# Altium schematic symbol library Sensor_Current.SchLib: 253 symbols (part 2 of 3)
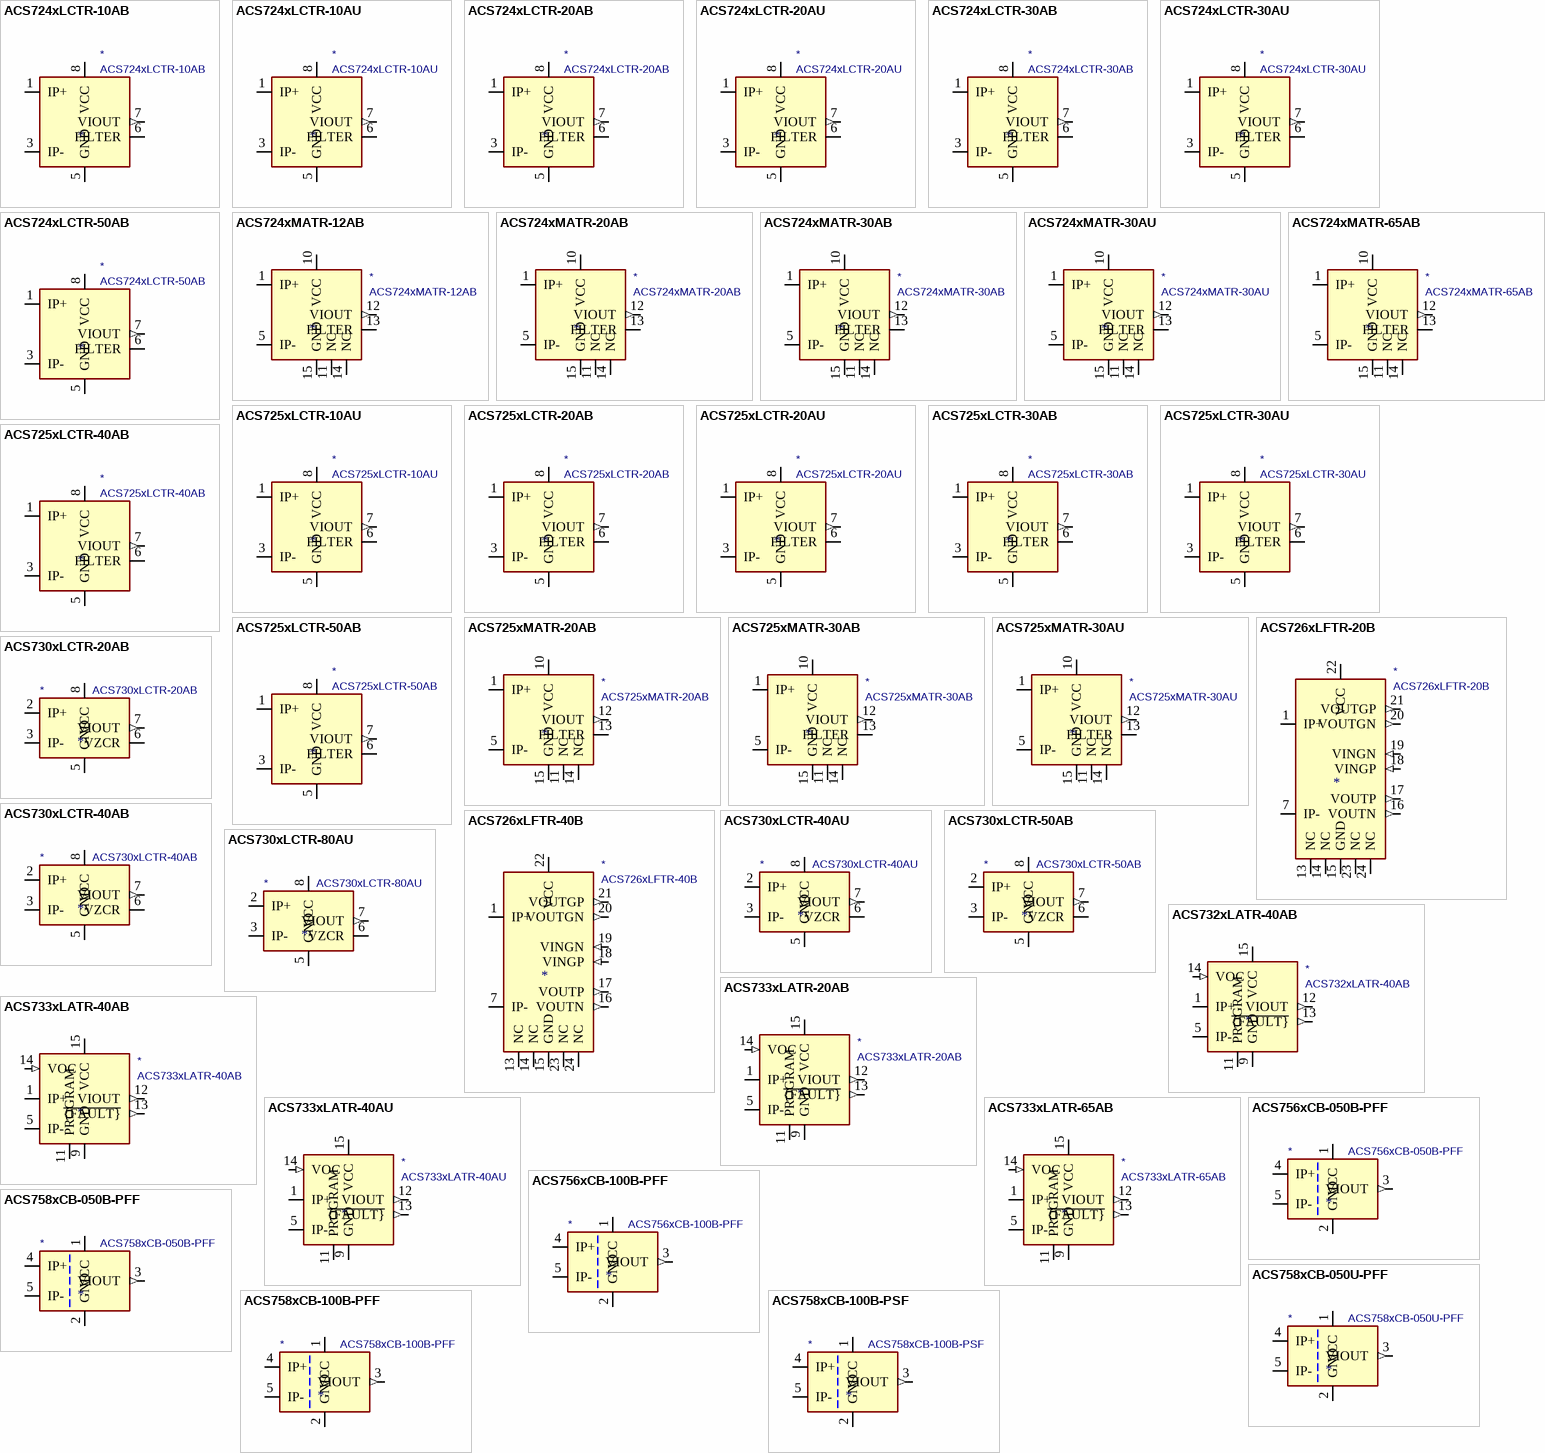
[diagram p7: symbols ACS724xLCTR-10AB to ACS758xCB-100B-PSF]

## ACS724xMATR-12AB
designator *  value ACS724xMATR-12AB
ki_keywords: hall effect current monitor sensor isolated; ki_description: ±12A Bidirectional Hall-Effect Current Sensor, +5.0V supply, 166mV/A, SOIC-16; ki_fp_filters: SOIC*7.5x10.3mm*P1.27mm*; Footprint: Package_SO:SOIC-16W_7.5x10.3mm_P1.27mm; Supplier: http://www.allegromicro.com/~/media/Files/Datasheets/ACS724KMA-Datasheet.ashx?la=en
footprint SOIC-16W_7.5x10.3mm_P1.27mm
pins: 1 IP+, 2 IP+ hidden, 3 IP+ hidden, 4 IP+ hidden, 5 IP-, 6 IP- hidden, 7 IP- hidden, 8 IP- hidden, 9 NC (in) hidden, 10 VCC (power), 11 NC, 12 VIOUT (out), 13 FILTER, 14 NC, 15 GND (power), 16 NC (in) hidden

## ACS724xMATR-20AB
designator *  value ACS724xMATR-20AB
ki_keywords: hall effect current monitor sensor isolated; ki_description: ±20A Bidirectional Hall-Effect Current Sensor, +5.0V supply, 100mV/A, SOIC-16; ki_fp_filters: SOIC*7.5x10.3mm*P1.27mm*; Footprint: Package_SO:SOIC-16W_7.5x10.3mm_P1.27mm; Supplier: http://www.allegromicro.com/~/media/Files/Datasheets/ACS724KMA-Datasheet.ashx?la=en
footprint SOIC-16W_7.5x10.3mm_P1.27mm
pins: 1 IP+, 2 IP+ hidden, 3 IP+ hidden, 4 IP+ hidden, 5 IP-, 6 IP- hidden, 7 IP- hidden, 8 IP- hidden, 9 NC (in) hidden, 10 VCC (power), 11 NC, 12 VIOUT (out), 13 FILTER, 14 NC, 15 GND (power), 16 NC (in) hidden

## ACS724xMATR-30AB
designator *  value ACS724xMATR-30AB
ki_keywords: hall effect current monitor sensor isolated; ki_description: ±30A Bidirectional Hall-Effect Current Sensor, +5.0V supply, 66mV/A, SOIC-16; ki_fp_filters: SOIC*7.5x10.3mm*P1.27mm*; Footprint: Package_SO:SOIC-16W_7.5x10.3mm_P1.27mm; Supplier: http://www.allegromicro.com/~/media/Files/Datasheets/ACS724KMA-Datasheet.ashx?la=en
footprint SOIC-16W_7.5x10.3mm_P1.27mm
pins: 1 IP+, 2 IP+ hidden, 3 IP+ hidden, 4 IP+ hidden, 5 IP-, 6 IP- hidden, 7 IP- hidden, 8 IP- hidden, 9 NC (in) hidden, 10 VCC (power), 11 NC, 12 VIOUT (out), 13 FILTER, 14 NC, 15 GND (power), 16 NC (in) hidden

## ACS724xMATR-30AU
designator *  value ACS724xMATR-30AU
ki_keywords: hall effect current monitor sensor isolated; ki_description: 30A Unidirectional Hall-Effect Current Sensor, +5.0V supply, 132mV/A, SOIC-16; ki_fp_filters: SOIC*7.5x10.3mm*P1.27mm*; Footprint: Package_SO:SOIC-16W_7.5x10.3mm_P1.27mm; Supplier: http://www.allegromicro.com/~/media/Files/Datasheets/ACS724KMA-Datasheet.ashx?la=en
footprint SOIC-16W_7.5x10.3mm_P1.27mm
pins: 1 IP+, 2 IP+ hidden, 3 IP+ hidden, 4 IP+ hidden, 5 IP-, 6 IP- hidden, 7 IP- hidden, 8 IP- hidden, 9 NC (in) hidden, 10 VCC (power), 11 NC, 12 VIOUT (out), 13 FILTER, 14 NC, 15 GND (power), 16 NC (in) hidden

## ACS724xMATR-65AB
designator *  value ACS724xMATR-65AB
ki_keywords: hall effect current monitor sensor isolated; ki_description: ±65A Bidirectional Hall-Effect Current Sensor, +5.0V supply, 30.75mV/A, SOIC-16; ki_fp_filters: SOIC*7.5x10.3mm*P1.27mm*; Footprint: Package_SO:SOIC-16W_7.5x10.3mm_P1.27mm; Supplier: http://www.allegromicro.com/~/media/Files/Datasheets/ACS724KMA-Datasheet.ashx?la=en
footprint SOIC-16W_7.5x10.3mm_P1.27mm
pins: 1 IP+, 2 IP+ hidden, 3 IP+ hidden, 4 IP+ hidden, 5 IP-, 6 IP- hidden, 7 IP- hidden, 8 IP- hidden, 9 NC (in) hidden, 10 VCC (power), 11 NC, 12 VIOUT (out), 13 FILTER, 14 NC, 15 GND (power), 16 NC (in) hidden

## ACS725xLCTR-10AU
designator *  value ACS725xLCTR-10AU
ki_keywords: hall effect current monitor sensor isolated; ki_description: 10A Unidirectional Hall-Effect Current Sensor, +3.3V supply, 264mV/A, SOIC-8; ki_fp_filters: SOIC*3.9x4.9m*P1.27mm*; Footprint: Package_SO:SOIC-8_3.9x4.9mm_P1.27mm; Supplier: http://www.allegromicro.com/~/media/Files/Datasheets/ACS725-Datasheet.ashx?la=en
footprint SOIC-8_3.9x4.9mm_P1.27mm
pins: 1 IP+, 2 IP+ hidden, 3 IP-, 4 IP- hidden, 5 GND (power), 6 FILTER, 7 VIOUT (out), 8 VCC (power)

## ACS725xLCTR-20AB
designator *  value ACS725xLCTR-20AB
ki_keywords: hall effect current monitor sensor isolated; ki_description: ±20A Bidirectional Hall-Effect Current Sensor, +3.3V supply, 66mV/A, SOIC-8; ki_fp_filters: SOIC*3.9x4.9m*P1.27mm*; Footprint: Package_SO:SOIC-8_3.9x4.9mm_P1.27mm; Supplier: http://www.allegromicro.com/~/media/Files/Datasheets/ACS725-Datasheet.ashx?la=en
footprint SOIC-8_3.9x4.9mm_P1.27mm
pins: 1 IP+, 2 IP+ hidden, 3 IP-, 4 IP- hidden, 5 GND (power), 6 FILTER, 7 VIOUT (out), 8 VCC (power)

## ACS725xLCTR-20AU
designator *  value ACS725xLCTR-20AU
ki_keywords: hall effect current monitor sensor isolated; ki_description: 20A Unidirectional Hall-Effect Current Sensor, +3.3V supply, 132mV/A, SOIC-8; ki_fp_filters: SOIC*3.9x4.9m*P1.27mm*; Footprint: Package_SO:SOIC-8_3.9x4.9mm_P1.27mm; Supplier: http://www.allegromicro.com/~/media/Files/Datasheets/ACS725-Datasheet.ashx?la=en
footprint SOIC-8_3.9x4.9mm_P1.27mm
pins: 1 IP+, 2 IP+ hidden, 3 IP-, 4 IP- hidden, 5 GND (power), 6 FILTER, 7 VIOUT (out), 8 VCC (power)

## ACS725xLCTR-30AB
designator *  value ACS725xLCTR-30AB
ki_keywords: hall effect current monitor sensor isolated; ki_description: ±30A Bidirectional Hall-Effect Current Sensor, +3.3V supply, 44mV/A, SOIC-8; ki_fp_filters: SOIC*3.9x4.9m*P1.27mm*; Footprint: Package_SO:SOIC-8_3.9x4.9mm_P1.27mm; Supplier: http://www.allegromicro.com/~/media/Files/Datasheets/ACS725-Datasheet.ashx?la=en
footprint SOIC-8_3.9x4.9mm_P1.27mm
pins: 1 IP+, 2 IP+ hidden, 3 IP-, 4 IP- hidden, 5 GND (power), 6 FILTER, 7 VIOUT (out), 8 VCC (power)

## ACS725xLCTR-30AU
designator *  value ACS725xLCTR-30AU
ki_keywords: hall effect current monitor sensor isolated; ki_description: 30A Unidirectional Hall-Effect Current Sensor, +3.3V supply, 88mV/A, SOIC-8; ki_fp_filters: SOIC*3.9x4.9m*P1.27mm*; Footprint: Package_SO:SOIC-8_3.9x4.9mm_P1.27mm; Supplier: http://www.allegromicro.com/~/media/Files/Datasheets/ACS725-Datasheet.ashx?la=en
footprint SOIC-8_3.9x4.9mm_P1.27mm
pins: 1 IP+, 2 IP+ hidden, 3 IP-, 4 IP- hidden, 5 GND (power), 6 FILTER, 7 VIOUT (out), 8 VCC (power)

## ACS725xLCTR-40AB
designator *  value ACS725xLCTR-40AB
ki_keywords: hall effect current monitor sensor isolated; ki_description: ±40A Bidirectional Hall-Effect Current Sensor, +3.3V supply, 33mV/A, SOIC-8; ki_fp_filters: SOIC*3.9x4.9m*P1.27mm*; Footprint: Package_SO:SOIC-8_3.9x4.9mm_P1.27mm; Supplier: http://www.allegromicro.com/~/media/Files/Datasheets/ACS725-Datasheet.ashx?la=en
footprint SOIC-8_3.9x4.9mm_P1.27mm
pins: 1 IP+, 2 IP+ hidden, 3 IP-, 4 IP- hidden, 5 GND (power), 6 FILTER, 7 VIOUT (out), 8 VCC (power)

## ACS725xLCTR-50AB
designator *  value ACS725xLCTR-50AB
ki_keywords: hall effect current monitor sensor isolated; ki_description: ±50A Bidirectional Hall-Effect Current Sensor, +3.3V supply, 26.4mV/A, SOIC-8; ki_fp_filters: SOIC*3.9x4.9m*P1.27mm*; Footprint: Package_SO:SOIC-8_3.9x4.9mm_P1.27mm; Supplier: http://www.allegromicro.com/~/media/Files/Datasheets/ACS725-Datasheet.ashx?la=en
footprint SOIC-8_3.9x4.9mm_P1.27mm
pins: 1 IP+, 2 IP+ hidden, 3 IP-, 4 IP- hidden, 5 GND (power), 6 FILTER, 7 VIOUT (out), 8 VCC (power)

## ACS725xMATR-20AB
designator *  value ACS725xMATR-20AB
ki_keywords: hall effect current monitor sensor isolated; ki_description: ±20A Bidirectional Hall-Effect Current Sensor, +3.3V supply, 66mV/A, SOIC-16; ki_fp_filters: SOIC*7.5x10.3mm*P1.27mm*; Footprint: Package_SO:SOIC-16W_7.5x10.3mm_P1.27mm; Supplier: http://www.allegromicro.com/~/media/Files/Datasheets/ACS725KMA-Datasheet.ashx?la=en
footprint SOIC-16W_7.5x10.3mm_P1.27mm
pins: 1 IP+, 2 IP+ hidden, 3 IP+ hidden, 4 IP+ hidden, 5 IP-, 6 IP- hidden, 7 IP- hidden, 8 IP- hidden, 9 NC (in) hidden, 10 VCC (power), 11 NC, 12 VIOUT (out), 13 FILTER, 14 NC, 15 GND (power), 16 NC (in) hidden

## ACS725xMATR-30AB
designator *  value ACS725xMATR-30AB
ki_keywords: hall effect current monitor sensor isolated; ki_description: ±30A Bidirectional Hall-Effect Current Sensor, +3.3V supply, 44mV/A, SOIC-16; ki_fp_filters: SOIC*7.5x10.3mm*P1.27mm*; Footprint: Package_SO:SOIC-16W_7.5x10.3mm_P1.27mm; Supplier: http://www.allegromicro.com/~/media/Files/Datasheets/ACS725KMA-Datasheet.ashx?la=en
footprint SOIC-16W_7.5x10.3mm_P1.27mm
pins: 1 IP+, 2 IP+ hidden, 3 IP+ hidden, 4 IP+ hidden, 5 IP-, 6 IP- hidden, 7 IP- hidden, 8 IP- hidden, 9 NC (in) hidden, 10 VCC (power), 11 NC, 12 VIOUT (out), 13 FILTER, 14 NC, 15 GND (power), 16 NC (in) hidden

## ACS725xMATR-30AU
designator *  value ACS725xMATR-30AU
ki_keywords: hall effect current monitor sensor isolated; ki_description: 30A Unidirectional Hall-Effect Current Sensor, +3.3V supply, 88mV/A, SOIC-16; ki_fp_filters: SOIC*7.5x10.3mm*P1.27mm*; Footprint: Package_SO:SOIC-16W_7.5x10.3mm_P1.27mm; Supplier: http://www.allegromicro.com/~/media/Files/Datasheets/ACS725KMA-Datasheet.ashx?la=en
footprint SOIC-16W_7.5x10.3mm_P1.27mm
pins: 1 IP+, 2 IP+ hidden, 3 IP+ hidden, 4 IP+ hidden, 5 IP-, 6 IP- hidden, 7 IP- hidden, 8 IP- hidden, 9 NC (in) hidden, 10 VCC (power), 11 NC, 12 VIOUT (out), 13 FILTER, 14 NC, 15 GND (power), 16 NC (in) hidden

## ACS726xLFTR-20B
designator *  value ACS726xLFTR-20B
ki_keywords: hall effect current monitor sensor isolated; ki_description: ±20A Bidirectional Hall-Effect Current Sensor, +3.3V supply, 100mV/A, QSOP-24; ki_fp_filters: Allegro*QSOP*3.9x8.7mm*P0.635mm*; Footprint: Sensor_Current:Allegro_QSOP-24_3.9x8.7mm_P0.635mm; Supplier: http://www.allegromicro.com/~/media/Files/Datasheets/ACS726-Datasheet.ashx?la=en
footprint Allegro_QSOP-24_3.9x8.7mm_P0.635mm
pins: 1 IP+, 2 IP+ hidden, 3 IP+ hidden, 4 IP+ hidden, 5 IP+ hidden, 6 IP+ hidden, 7 IP-, 8 IP- hidden, 9 IP- hidden, 10 IP- hidden, 11 IP- hidden, 12 IP- hidden, 13 NC, 14 NC, 15 GND (power), 16 VOUTN (out), 17 VOUTP (out), 18 VINGP (in), 19 VINGN (in), 20 VOUTGN (out), 21 VOUTGP (out), 22 VCC (power), 23 NC, 24 NC

## ACS726xLFTR-40B
designator *  value ACS726xLFTR-40B
ki_keywords: hall effect current monitor sensor isolated; ki_description: ±40A Bidirectional Hall-Effect Current Sensor, +3.3V supply, 50mV/A, QSOP-24; ki_fp_filters: Allegro*QSOP*3.9x8.7mm*P0.635mm*; Footprint: Sensor_Current:Allegro_QSOP-24_3.9x8.7mm_P0.635mm; Supplier: http://www.allegromicro.com/~/media/Files/Datasheets/ACS726-Datasheet.ashx?la=en
footprint Allegro_QSOP-24_3.9x8.7mm_P0.635mm
pins: 1 IP+, 2 IP+ hidden, 3 IP+ hidden, 4 IP+ hidden, 5 IP+ hidden, 6 IP+ hidden, 7 IP-, 8 IP- hidden, 9 IP- hidden, 10 IP- hidden, 11 IP- hidden, 12 IP- hidden, 13 NC, 14 NC, 15 GND (power), 16 VOUTN (out), 17 VOUTP (out), 18 VINGP (in), 19 VINGN (in), 20 VOUTGN (out), 21 VOUTGP (out), 22 VCC (power), 23 NC, 24 NC

## ACS730xLCTR-20AB
designator *  value ACS730xLCTR-20AB
ki_keywords: hall effect current monitor sensor isolated; ki_description: ±20A Bidirectional Hall-Effect Current Sensor, +5.0V supply, 100mV/A, SOIC-8; ki_fp_filters: SOIC*3.9x4.9mm*P1.27mm*; Footprint: Package_SO:SOIC-8_3.9x4.9mm_P1.27mm; Supplier: http://www.allegromicro.com/~/media/Files/Datasheets/ACS730-Datasheet.ashx?la=en
footprint SOIC-8_3.9x4.9mm_P1.27mm
pins: 1 IP+ hidden, 2 IP+, 3 IP-, 4 IP- hidden, 5 GND (power), 6 VZCR, 7 VIOUT (out), 8 VCC (power)

## ACS730xLCTR-40AB
designator *  value ACS730xLCTR-40AB
ki_keywords: hall effect current monitor sensor isolated; ki_description: ±40A Bidirectional Hall-Effect Current Sensor, +5.0V supply, 50mV/A, SOIC-8; ki_fp_filters: SOIC*3.9x4.9mm*P1.27mm*; Footprint: Package_SO:SOIC-8_3.9x4.9mm_P1.27mm; Supplier: http://www.allegromicro.com/~/media/Files/Datasheets/ACS730-Datasheet.ashx?la=en
footprint SOIC-8_3.9x4.9mm_P1.27mm
pins: 1 IP+ hidden, 2 IP+, 3 IP-, 4 IP- hidden, 5 GND (power), 6 VZCR, 7 VIOUT (out), 8 VCC (power)

## ACS730xLCTR-40AU
designator *  value ACS730xLCTR-40AU
ki_keywords: hall effect current monitor sensor isolated; ki_description: 40A Unidirectional Hall-Effect Current Sensor, +5.0V supply, 100mV/A, SOIC-8; ki_fp_filters: SOIC*3.9x4.9mm*P1.27mm*; Footprint: Package_SO:SOIC-8_3.9x4.9mm_P1.27mm; Supplier: http://www.allegromicro.com/~/media/Files/Datasheets/ACS730-Datasheet.ashx?la=en
footprint SOIC-8_3.9x4.9mm_P1.27mm
pins: 1 IP+ hidden, 2 IP+, 3 IP-, 4 IP- hidden, 5 GND (power), 6 VZCR, 7 VIOUT (out), 8 VCC (power)

## ACS730xLCTR-50AB
designator *  value ACS730xLCTR-50AB
ki_keywords: hall effect current monitor sensor isolated; ki_description: ±50A Bidirectional Hall-Effect Current Sensor, +5.0V supply, 40mV/A, SOIC-8; ki_fp_filters: SOIC*3.9x4.9mm*P1.27mm*; Footprint: Package_SO:SOIC-8_3.9x4.9mm_P1.27mm; Supplier: http://www.allegromicro.com/~/media/Files/Datasheets/ACS730-Datasheet.ashx?la=en
footprint SOIC-8_3.9x4.9mm_P1.27mm
pins: 1 IP+ hidden, 2 IP+, 3 IP-, 4 IP- hidden, 5 GND (power), 6 VZCR, 7 VIOUT (out), 8 VCC (power)

## ACS730xLCTR-80AU
designator *  value ACS730xLCTR-80AU
ki_keywords: hall effect current monitor sensor isolated; ki_description: 80A Unidirectional Hall-Effect Current Sensor, +5.0V supply, 50mV/A, SOIC-8; ki_fp_filters: SOIC*3.9x4.9mm*P1.27mm*; Footprint: Package_SO:SOIC-8_3.9x4.9mm_P1.27mm; Supplier: http://www.allegromicro.com/~/media/Files/Datasheets/ACS730-Datasheet.ashx?la=en
footprint SOIC-8_3.9x4.9mm_P1.27mm
pins: 1 IP+ hidden, 2 IP+, 3 IP-, 4 IP- hidden, 5 GND (power), 6 VZCR, 7 VIOUT (out), 8 VCC (power)

## ACS732xLATR-40AB
designator *  value ACS732xLATR-40AB
ki_keywords: hall effect current monitor sensor isolated; ki_description: ±40A Bidirectional Hall-Effect Current Sensor, +5.0V supply, 50mV/A, SOIC-16; ki_fp_filters: SOIC*7.5x10.3mm*P1.27mm*; Footprint: Package_SO:SOIC-16W_7.5x10.3mm_P1.27mm; Supplier: http://www.allegromicro.com/~/media/Files/Datasheets/ACS732-ACS733-Datasheet.ashx?la=en
footprint SOIC-16W_7.5x10.3mm_P1.27mm
pins: 1 IP+, 2 IP+ hidden, 3 IP+ hidden, 4 IP+ hidden, 5 IP-, 6 IP- hidden, 7 IP- hidden, 8 IP- hidden, 9 GND (power), 10 GND hidden, 11 PROGRAM, 12 VIOUT (out), 13 ~{{FAULT}} (out), 14 VOC (in), 15 VCC (power), 16 VCC hidden

## ACS733xLATR-20AB
designator *  value ACS733xLATR-20AB
ki_keywords: hall effect current monitor sensor isolated; ki_description: ±20A Bidirectional Hall-Effect Current Sensor, +3.3V supply, 66mV/A, SOIC-16; ki_fp_filters: SOIC*7.5x10.3mm*P1.27mm*; Footprint: Package_SO:SOIC-16W_7.5x10.3mm_P1.27mm; Supplier: http://www.allegromicro.com/~/media/Files/Datasheets/ACS732-ACS733-Datasheet.ashx?la=en
footprint SOIC-16W_7.5x10.3mm_P1.27mm
pins: 1 IP+, 2 IP+ hidden, 3 IP+ hidden, 4 IP+ hidden, 5 IP-, 6 IP- hidden, 7 IP- hidden, 8 IP- hidden, 9 GND (power), 10 GND hidden, 11 PROGRAM, 12 VIOUT (out), 13 ~{{FAULT}} (out), 14 VOC (in), 15 VCC (power), 16 VCC hidden

## ACS733xLATR-40AB
designator *  value ACS733xLATR-40AB
ki_keywords: hall effect current monitor sensor isolated; ki_description: ±40A Bidirectional Hall-Effect Current Sensor, +3.3V supply, 33mV/A, SOIC-16; ki_fp_filters: SOIC*7.5x10.3mm*P1.27mm*; Footprint: Package_SO:SOIC-16W_7.5x10.3mm_P1.27mm; Supplier: http://www.allegromicro.com/~/media/Files/Datasheets/ACS732-ACS733-Datasheet.ashx?la=en
footprint SOIC-16W_7.5x10.3mm_P1.27mm
pins: 1 IP+, 2 IP+ hidden, 3 IP+ hidden, 4 IP+ hidden, 5 IP-, 6 IP- hidden, 7 IP- hidden, 8 IP- hidden, 9 GND (power), 10 GND hidden, 11 PROGRAM, 12 VIOUT (out), 13 ~{{FAULT}} (out), 14 VOC (in), 15 VCC (power), 16 VCC hidden

## ACS733xLATR-40AU
designator *  value ACS733xLATR-40AU
ki_keywords: hall effect current monitor sensor isolated; ki_description: 40A Unidirectional Hall-Effect Current Sensor, +3.3V supply, 66mV/A, SOIC-16; ki_fp_filters: SOIC*7.5x10.3mm*P1.27mm*; Footprint: Package_SO:SOIC-16W_7.5x10.3mm_P1.27mm; Supplier: http://www.allegromicro.com/~/media/Files/Datasheets/ACS732-ACS733-Datasheet.ashx?la=en
footprint SOIC-16W_7.5x10.3mm_P1.27mm
pins: 1 IP+, 2 IP+ hidden, 3 IP+ hidden, 4 IP+ hidden, 5 IP-, 6 IP- hidden, 7 IP- hidden, 8 IP- hidden, 9 GND (power), 10 GND hidden, 11 PROGRAM, 12 VIOUT (out), 13 ~{{FAULT}} (out), 14 VOC (in), 15 VCC (power), 16 VCC hidden

## ACS733xLATR-65AB
designator *  value ACS733xLATR-65AB
ki_keywords: hall effect current monitor sensor isolated; ki_description: ±65A Unidirectional Hall-Effect Current Sensor, +3.3V supply, 20mV/A, SOIC-16; ki_fp_filters: SOIC*7.5x10.3mm*P1.27mm*; Footprint: Package_SO:SOIC-16W_7.5x10.3mm_P1.27mm; Supplier: http://www.allegromicro.com/~/media/Files/Datasheets/ACS732-ACS733-Datasheet.ashx?la=en
footprint SOIC-16W_7.5x10.3mm_P1.27mm
pins: 1 IP+, 2 IP+ hidden, 3 IP+ hidden, 4 IP+ hidden, 5 IP-, 6 IP- hidden, 7 IP- hidden, 8 IP- hidden, 9 GND (power), 10 GND hidden, 11 PROGRAM, 12 VIOUT (out), 13 ~{{FAULT}} (out), 14 VOC (in), 15 VCC (power), 16 VCC hidden

## ACS756xCB-050B-PFF
designator *  value ACS756xCB-050B-PFF
ki_keywords: hall effect current monitor sensor isolated; ki_description: ±50A Bidirectional Hall-Effect Current Sensor, +5.0V supply, 40mV/A, CB-5 PFF; ki_fp_filters: Allegro*CB*PFF*; Footprint: Sensor_Current:Allegro_CB_PFF; Supplier: http://www.allegromicro.com/~/media/Files/Datasheets/ACS756-Datasheet.ashx?la=en
footprint Allegro_CB_PFF
pins: 1 VCC (power), 2 GND (power), 3 VIOUT (out), 4 IP+, 5 IP-

## ACS756xCB-100B-PFF
designator *  value ACS756xCB-100B-PFF
ki_keywords: hall effect current monitor sensor isolated; ki_description: ±100A Bidirectional Hall-Effect Current Sensor, +5.0V supply, 20mV/A, CB-5 PFF; ki_fp_filters: Allegro*CB*PFF*; Footprint: Sensor_Current:Allegro_CB_PFF; Supplier: http://www.allegromicro.com/~/media/Files/Datasheets/ACS756-Datasheet.ashx?la=en
footprint Allegro_CB_PFF
pins: 1 VCC (power), 2 GND (power), 3 VIOUT (out), 4 IP+, 5 IP-

## ACS758xCB-050B-PFF
designator *  value ACS758xCB-050B-PFF
ki_keywords: hall effect current monitor sensor isolated; ki_description: ±50A Bidirectional Hall-Effect Current Sensor, +5.0V supply, 40mV/A, CB-5 PFF; ki_fp_filters: Allegro*CB*PFF*; Footprint: Sensor_Current:Allegro_CB_PFF; Supplier: http://www.allegromicro.com/~/media/Files/Datasheets/ACS758-Datasheet.ashx?la=en
footprint Allegro_CB_PFF
pins: 1 VCC (power), 2 GND (power), 3 VIOUT (out), 4 IP+, 5 IP-

## ACS758xCB-050U-PFF
designator *  value ACS758xCB-050U-PFF
ki_keywords: hall effect current monitor sensor isolated; ki_description: 50A Unidirectional Hall-Effect Current Sensor, +5.0V supply, 60mV/A, CB-5 PFF; ki_fp_filters: Allegro*CB*PFF*; Footprint: Sensor_Current:Allegro_CB_PFF; Supplier: http://www.allegromicro.com/~/media/Files/Datasheets/ACS758-Datasheet.ashx?la=en
footprint Allegro_CB_PFF
pins: 1 VCC (power), 2 GND (power), 3 VIOUT (out), 4 IP+, 5 IP-

## ACS758xCB-100B-PFF
designator *  value ACS758xCB-100B-PFF
ki_keywords: hall effect current monitor sensor isolated; ki_description: ±100A Bidirectional Hall-Effect Current Sensor, +5.0V supply, 20mV/A, CB-5 PFF; ki_fp_filters: Allegro*CB*PFF*; Footprint: Sensor_Current:Allegro_CB_PFF; Supplier: http://www.allegromicro.com/~/media/Files/Datasheets/ACS758-Datasheet.ashx?la=en
footprint Allegro_CB_PFF
pins: 1 VCC (power), 2 GND (power), 3 VIOUT (out), 4 IP+, 5 IP-

## ACS758xCB-100B-PSF
designator *  value ACS758xCB-100B-PSF
ki_keywords: hall effect current monitor sensor isolated; ki_description: ±100A Bidirectional Hall-Effect Current Sensor, +5.0V supply, 20mV/A, CB-5 PSF; ki_fp_filters: Allegro*CB*PSF*; Footprint: Sensor_Current:Allegro_CB_PSF; Supplier: http://www.allegromicro.com/~/media/Files/Datasheets/ACS758-Datasheet.ashx?la=en
footprint Allegro_CB_PSF
pins: 1 VCC (power), 2 GND (power), 3 VIOUT (out), 4 IP+, 5 IP-

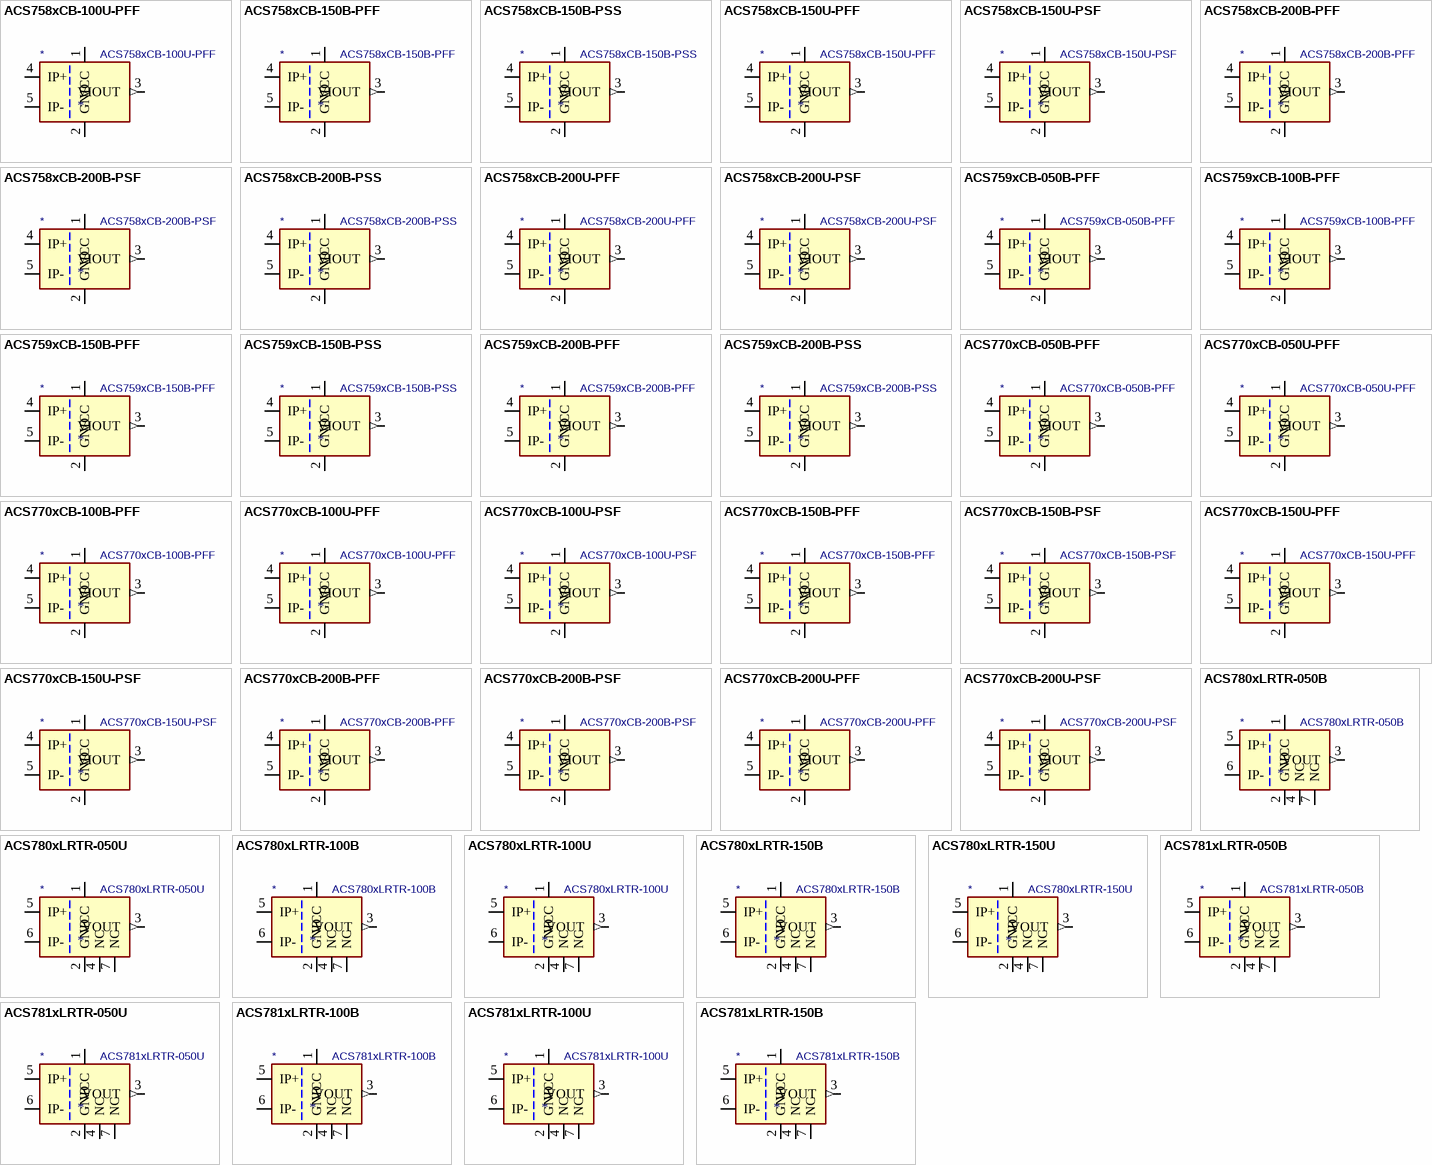
[diagram p3: symbols ACS758xCB-100U-PFF to ACS781xLRTR-150B]

## ACS758xCB-100U-PFF
designator *  value ACS758xCB-100U-PFF
ki_keywords: hall effect current monitor sensor isolated; ki_description: 100A Unidirectional Hall-Effect Current Sensor, +5.0V supply, 40mV/A, CB-5 PFF; ki_fp_filters: Allegro*CB*PFF*; Footprint: Sensor_Current:Allegro_CB_PFF; Supplier: http://www.allegromicro.com/~/media/Files/Datasheets/ACS758-Datasheet.ashx?la=en
footprint Allegro_CB_PFF
pins: 1 VCC (power), 2 GND (power), 3 VIOUT (out), 4 IP+, 5 IP-

## ACS758xCB-150B-PFF
designator *  value ACS758xCB-150B-PFF
ki_keywords: hall effect current monitor sensor isolated; ki_description: ±150A Bidirectional Hall-Effect Current Sensor, +5.0V supply, 13.3mV/A, CB-5 PFF; ki_fp_filters: Allegro*CB*PFF*; Footprint: Sensor_Current:Allegro_CB_PFF; Supplier: http://www.allegromicro.com/~/media/Files/Datasheets/ACS758-Datasheet.ashx?la=en
footprint Allegro_CB_PFF
pins: 1 VCC (power), 2 GND (power), 3 VIOUT (out), 4 IP+, 5 IP-

## ACS758xCB-150B-PSS
designator *  value ACS758xCB-150B-PSS
ki_keywords: hall effect current monitor sensor isolated; ki_description: ±150A Bidirectional Hall-Effect Current Sensor, +5.0V supply, 13.3mV/A, CB-5 PSS; ki_fp_filters: Allegro*CB*PSS*; Footprint: Sensor_Current:Allegro_CB_PSS; Supplier: http://www.allegromicro.com/~/media/Files/Datasheets/ACS758-Datasheet.ashx?la=en
footprint Allegro_CB_PSS
pins: 1 VCC (power), 2 GND (power), 3 VIOUT (out), 4 IP+, 5 IP-

## ACS758xCB-150U-PFF
designator *  value ACS758xCB-150U-PFF
ki_keywords: hall effect current monitor sensor isolated; ki_description: 150A Unidirectional Hall-Effect Current Sensor, +5.0V supply, 26.7mV/A, CB-5 PFF; ki_fp_filters: Allegro*CB*PFF*; Footprint: Sensor_Current:Allegro_CB_PFF; Supplier: http://www.allegromicro.com/~/media/Files/Datasheets/ACS758-Datasheet.ashx?la=en
footprint Allegro_CB_PFF
pins: 1 VCC (power), 2 GND (power), 3 VIOUT (out), 4 IP+, 5 IP-

## ACS758xCB-150U-PSF
designator *  value ACS758xCB-150U-PSF
ki_keywords: hall effect current monitor sensor isolated; ki_description: 150A Unidirectional Hall-Effect Current Sensor, +5.0V supply, 26.7mV/A, CB-5 PSF; ki_fp_filters: Allegro*CB*PSF*; Footprint: Sensor_Current:Allegro_CB_PSF; Supplier: http://www.allegromicro.com/~/media/Files/Datasheets/ACS758-Datasheet.ashx?la=en
footprint Allegro_CB_PSF
pins: 1 VCC (power), 2 GND (power), 3 VIOUT (out), 4 IP+, 5 IP-

## ACS758xCB-200B-PFF
designator *  value ACS758xCB-200B-PFF
ki_keywords: hall effect current monitor sensor isolated; ki_description: ±200A Bidirectional Hall-Effect Current Sensor, +5.0V supply, 10mV/A, CB-5 PFF; ki_fp_filters: Allegro*CB*PFF*; Footprint: Sensor_Current:Allegro_CB_PFF; Supplier: http://www.allegromicro.com/~/media/Files/Datasheets/ACS758-Datasheet.ashx?la=en
footprint Allegro_CB_PFF
pins: 1 VCC (power), 2 GND (power), 3 VIOUT (out), 4 IP+, 5 IP-

## ACS758xCB-200B-PSF
designator *  value ACS758xCB-200B-PSF
ki_keywords: hall effect current monitor sensor isolated; ki_description: ±200A Bidirectional Hall-Effect Current Sensor, +5.0V supply, 10mV/A, CB-5 PSF; ki_fp_filters: Allegro*CB*PSF*; Footprint: Sensor_Current:Allegro_CB_PSF; Supplier: http://www.allegromicro.com/~/media/Files/Datasheets/ACS758-Datasheet.ashx?la=en
footprint Allegro_CB_PSF
pins: 1 VCC (power), 2 GND (power), 3 VIOUT (out), 4 IP+, 5 IP-

## ACS758xCB-200B-PSS
designator *  value ACS758xCB-200B-PSS
ki_keywords: hall effect current monitor sensor isolated; ki_description: ±200A Bidirectional Hall-Effect Current Sensor, +5.0V supply, 10mV/A, CB-5 PSS; ki_fp_filters: Allegro*CB*PSS*; Footprint: Sensor_Current:Allegro_CB_PSS; Supplier: http://www.allegromicro.com/~/media/Files/Datasheets/ACS758-Datasheet.ashx?la=en
footprint Allegro_CB_PSS
pins: 1 VCC (power), 2 GND (power), 3 VIOUT (out), 4 IP+, 5 IP-

## ACS758xCB-200U-PFF
designator *  value ACS758xCB-200U-PFF
ki_keywords: hall effect current monitor sensor isolated; ki_description: 200A Unidirectional Hall-Effect Current Sensor, +5.0V supply, 20mV/A, CB-5 PFF; ki_fp_filters: Allegro*CB*PFF*; Footprint: Sensor_Current:Allegro_CB_PFF; Supplier: http://www.allegromicro.com/~/media/Files/Datasheets/ACS758-Datasheet.ashx?la=en
footprint Allegro_CB_PFF
pins: 1 VCC (power), 2 GND (power), 3 VIOUT (out), 4 IP+, 5 IP-

## ACS758xCB-200U-PSF
designator *  value ACS758xCB-200U-PSF
ki_keywords: hall effect current monitor sensor isolated; ki_description: 200A Unidirectional Hall-Effect Current Sensor, +5.0V supply, 20mV/A, CB-5 PSF; ki_fp_filters: Allegro*CB*PSF*; Footprint: Sensor_Current:Allegro_CB_PSF; Supplier: http://www.allegromicro.com/~/media/Files/Datasheets/ACS758-Datasheet.ashx?la=en
footprint Allegro_CB_PSF
pins: 1 VCC (power), 2 GND (power), 3 VIOUT (out), 4 IP+, 5 IP-

## ACS759xCB-050B-PFF
designator *  value ACS759xCB-050B-PFF
ki_keywords: hall effect current monitor sensor isolated; ki_description: ±50A Bidirectional Hall-Effect Current Sensor, +3.3V supply, 26.4mV/A, CB-5 PFF; ki_fp_filters: Allegro*CB*PFF*; Footprint: Sensor_Current:Allegro_CB_PFF; Supplier: http://www.allegromicro.com/~/media/Files/Datasheets/ACS759-Datasheet.ashx?la=en
footprint Allegro_CB_PFF
pins: 1 VCC (power), 2 GND (power), 3 VIOUT (out), 4 IP+, 5 IP-

## ACS759xCB-100B-PFF
designator *  value ACS759xCB-100B-PFF
ki_keywords: hall effect current monitor sensor isolated; ki_description: ±100A Bidirectional Hall-Effect Current Sensor, +3.3V supply, 13.2mV/A, CB-5 PFF; ki_fp_filters: Allegro*CB*PFF*; Footprint: Sensor_Current:Allegro_CB_PFF; Supplier: http://www.allegromicro.com/~/media/Files/Datasheets/ACS759-Datasheet.ashx?la=en
footprint Allegro_CB_PFF
pins: 1 VCC (power), 2 GND (power), 3 VIOUT (out), 4 IP+, 5 IP-

## ACS759xCB-150B-PFF
designator *  value ACS759xCB-150B-PFF
ki_keywords: hall effect current monitor sensor isolated; ki_description: ±150A Bidirectional Hall-Effect Current Sensor, +3.3V supply, 8.8mV/A, CB-5 PFF; ki_fp_filters: Allegro*CB*PFF*; Footprint: Sensor_Current:Allegro_CB_PFF; Supplier: http://www.allegromicro.com/~/media/Files/Datasheets/ACS759-Datasheet.ashx?la=en
footprint Allegro_CB_PFF
pins: 1 VCC (power), 2 GND (power), 3 VIOUT (out), 4 IP+, 5 IP-

## ACS759xCB-150B-PSS
designator *  value ACS759xCB-150B-PSS
ki_keywords: hall effect current monitor sensor isolated; ki_description: ±150A Bidirectional Hall-Effect Current Sensor, +3.3V supply, 8.8mV/A, CB-5 PSS; ki_fp_filters: Allegro*CB*PSS*; Footprint: Sensor_Current:Allegro_CB_PSS; Supplier: http://www.allegromicro.com/~/media/Files/Datasheets/ACS759-Datasheet.ashx?la=en
footprint Allegro_CB_PSS
pins: 1 VCC (power), 2 GND (power), 3 VIOUT (out), 4 IP+, 5 IP-

## ACS759xCB-200B-PFF
designator *  value ACS759xCB-200B-PFF
ki_keywords: hall effect current monitor sensor isolated; ki_description: ±200A Bidirectional Hall-Effect Current Sensor, +3.3V supply, 6.6mV/A, CB-5 PFF; ki_fp_filters: Allegro*CB*PFF*; Footprint: Sensor_Current:Allegro_CB_PFF; Supplier: http://www.allegromicro.com/~/media/Files/Datasheets/ACS759-Datasheet.ashx?la=en
footprint Allegro_CB_PFF
pins: 1 VCC (power), 2 GND (power), 3 VIOUT (out), 4 IP+, 5 IP-

## ACS759xCB-200B-PSS
designator *  value ACS759xCB-200B-PSS
ki_keywords: hall effect current monitor sensor isolated; ki_description: ±200A Bidirectional Hall-Effect Current Sensor, +3.3V supply, 6.6mV/A, CB-5 PSS; ki_fp_filters: Allegro*CB*PSS*; Footprint: Sensor_Current:Allegro_CB_PSS; Supplier: http://www.allegromicro.com/~/media/Files/Datasheets/ACS759-Datasheet.ashx?la=en
footprint Allegro_CB_PSS
pins: 1 VCC (power), 2 GND (power), 3 VIOUT (out), 4 IP+, 5 IP-

## ACS770xCB-050B-PFF
designator *  value ACS770xCB-050B-PFF
ki_keywords: hall effect current monitor sensor isolated; ki_description: ±50A Bidirectional Hall-Effect Current Sensor, +5.0V supply, 40mV/A, CB-5 PFF; ki_fp_filters: Allegro*CB*PFF*; Footprint: Sensor_Current:Allegro_CB_PFF; Supplier: http://www.allegromicro.com/~/media/Files/Datasheets/ACS758-Datasheet.ashx?la=en
footprint Allegro_CB_PFF
pins: 1 VCC (power), 2 GND (power), 3 VIOUT (out), 4 IP+, 5 IP-

## ACS770xCB-050U-PFF
designator *  value ACS770xCB-050U-PFF
ki_keywords: hall effect current monitor sensor isolated; ki_description: 50A Unidirectional Hall-Effect Current Sensor, +5.0V supply, 80mV/A, CB-5 PFF; ki_fp_filters: Allegro*CB*PFF*; Footprint: Sensor_Current:Allegro_CB_PFF; Supplier: http://www.allegromicro.com/~/media/Files/Datasheets/ACS758-Datasheet.ashx?la=en
footprint Allegro_CB_PFF
pins: 1 VCC (power), 2 GND (power), 3 VIOUT (out), 4 IP+, 5 IP-

## ACS770xCB-100B-PFF
designator *  value ACS770xCB-100B-PFF
ki_keywords: hall effect current monitor sensor isolated; ki_description: ±100A Bidirectional Hall-Effect Current Sensor, +5.0V supply, 20mV/A, CB-5 PFF; ki_fp_filters: Allegro*CB*PFF*; Footprint: Sensor_Current:Allegro_CB_PFF; Supplier: http://www.allegromicro.com/~/media/Files/Datasheets/ACS758-Datasheet.ashx?la=en
footprint Allegro_CB_PFF
pins: 1 VCC (power), 2 GND (power), 3 VIOUT (out), 4 IP+, 5 IP-

## ACS770xCB-100U-PFF
designator *  value ACS770xCB-100U-PFF
ki_keywords: hall effect current monitor sensor isolated; ki_description: 100A Unidirectional Hall-Effect Current Sensor, +5.0V supply, 40mV/A, CB-5 PFF; ki_fp_filters: Allegro*CB*PFF*; Footprint: Sensor_Current:Allegro_CB_PFF; Supplier: http://www.allegromicro.com/~/media/Files/Datasheets/ACS758-Datasheet.ashx?la=en
footprint Allegro_CB_PFF
pins: 1 VCC (power), 2 GND (power), 3 VIOUT (out), 4 IP+, 5 IP-

## ACS770xCB-100U-PSF
designator *  value ACS770xCB-100U-PSF
ki_keywords: hall effect current monitor sensor isolated; ki_description: 100A Unidirectional Hall-Effect Current Sensor, +5.0V supply, 40mV/A, CB-5 PSF; ki_fp_filters: Allegro*CB*PSF*; Footprint: Sensor_Current:Allegro_CB_PSF; Supplier: http://www.allegromicro.com/~/media/Files/Datasheets/ACS758-Datasheet.ashx?la=en
footprint Allegro_CB_PSF
pins: 1 VCC (power), 2 GND (power), 3 VIOUT (out), 4 IP+, 5 IP-

## ACS770xCB-150B-PFF
designator *  value ACS770xCB-150B-PFF
ki_keywords: hall effect current monitor sensor isolated; ki_description: ±50A Bidirectional Hall-Effect Current Sensor, +5.0V supply, 13.3mV/A, CB-5 PFF; ki_fp_filters: Allegro*CB*PFF*; Footprint: Sensor_Current:Allegro_CB_PFF; Supplier: http://www.allegromicro.com/~/media/Files/Datasheets/ACS758-Datasheet.ashx?la=en
footprint Allegro_CB_PFF
pins: 1 VCC (power), 2 GND (power), 3 VIOUT (out), 4 IP+, 5 IP-

## ACS770xCB-150B-PSF
designator *  value ACS770xCB-150B-PSF
ki_keywords: hall effect current monitor sensor isolated; ki_description: ±50A Bidirectional Hall-Effect Current Sensor, +5.0V supply, 13.3mV/A, CB-5 PSF; ki_fp_filters: Allegro*CB*PSF*; Footprint: Sensor_Current:Allegro_CB_PSF; Supplier: http://www.allegromicro.com/~/media/Files/Datasheets/ACS758-Datasheet.ashx?la=en
footprint Allegro_CB_PSF
pins: 1 VCC (power), 2 GND (power), 3 VIOUT (out), 4 IP+, 5 IP-

## ACS770xCB-150U-PFF
designator *  value ACS770xCB-150U-PFF
ki_keywords: hall effect current monitor sensor isolated; ki_description: 50A Unidirectional Hall-Effect Current Sensor, +5.0V supply, 26.7mV/A, CB-5 PFF; ki_fp_filters: Allegro*CB*PFF*; Footprint: Sensor_Current:Allegro_CB_PFF; Supplier: http://www.allegromicro.com/~/media/Files/Datasheets/ACS758-Datasheet.ashx?la=en
footprint Allegro_CB_PFF
pins: 1 VCC (power), 2 GND (power), 3 VIOUT (out), 4 IP+, 5 IP-

## ACS770xCB-150U-PSF
designator *  value ACS770xCB-150U-PSF
ki_keywords: hall effect current monitor sensor isolated; ki_description: 50A Unidirectional Hall-Effect Current Sensor, +5.0V supply, 26.7mV/A, CB-5 PSF; ki_fp_filters: Allegro*CB*PSF*; Footprint: Sensor_Current:Allegro_CB_PSF; Supplier: http://www.allegromicro.com/~/media/Files/Datasheets/ACS758-Datasheet.ashx?la=en
footprint Allegro_CB_PSF
pins: 1 VCC (power), 2 GND (power), 3 VIOUT (out), 4 IP+, 5 IP-

## ACS770xCB-200B-PFF
designator *  value ACS770xCB-200B-PFF
ki_keywords: hall effect current monitor sensor isolated; ki_description: ±50A Bidirectional Hall-Effect Current Sensor, +5.0V supply, 10mV/A, CB-5 PFF; ki_fp_filters: Allegro*CB*PFF*; Footprint: Sensor_Current:Allegro_CB_PFF; Supplier: http://www.allegromicro.com/~/media/Files/Datasheets/ACS758-Datasheet.ashx?la=en
footprint Allegro_CB_PFF
pins: 1 VCC (power), 2 GND (power), 3 VIOUT (out), 4 IP+, 5 IP-

## ACS770xCB-200B-PSF
designator *  value ACS770xCB-200B-PSF
ki_keywords: hall effect current monitor sensor isolated; ki_description: ±50A Bidirectional Hall-Effect Current Sensor, +5.0V supply, 10mV/A, CB-5 PSF; ki_fp_filters: Allegro*CB*PSF*; Footprint: Sensor_Current:Allegro_CB_PSF; Supplier: http://www.allegromicro.com/~/media/Files/Datasheets/ACS758-Datasheet.ashx?la=en
footprint Allegro_CB_PSF
pins: 1 VCC (power), 2 GND (power), 3 VIOUT (out), 4 IP+, 5 IP-

## ACS770xCB-200U-PFF
designator *  value ACS770xCB-200U-PFF
ki_keywords: hall effect current monitor sensor isolated; ki_description: 50A Unidirectional Hall-Effect Current Sensor, +5.0V supply, 20mV/A, CB-5 PFF; ki_fp_filters: Allegro*CB*PFF*; Footprint: Sensor_Current:Allegro_CB_PFF; Supplier: http://www.allegromicro.com/~/media/Files/Datasheets/ACS758-Datasheet.ashx?la=en
footprint Allegro_CB_PFF
pins: 1 VCC (power), 2 GND (power), 3 VIOUT (out), 4 IP+, 5 IP-

## ACS770xCB-200U-PSF
designator *  value ACS770xCB-200U-PSF
ki_keywords: hall effect current monitor sensor isolated; ki_description: 50A Unidirectional Hall-Effect Current Sensor, +5.0V supply, 20mV/A, CB-5 PSF; ki_fp_filters: Allegro*CB*PSF*; Footprint: Sensor_Current:Allegro_CB_PSF; Supplier: http://www.allegromicro.com/~/media/Files/Datasheets/ACS758-Datasheet.ashx?la=en
footprint Allegro_CB_PSF
pins: 1 VCC (power), 2 GND (power), 3 VIOUT (out), 4 IP+, 5 IP-

## ACS780xLRTR-050B
designator *  value ACS780xLRTR-050B
ki_keywords: hall effect current monitor sensor isolated; ki_description: ±50A Bidirectional Hall-Effect Current Sensor, +5.0V supply, 40mV/A, PSOF-7; ki_fp_filters: Allegro*PSOF*4.8x6.4mm*P1.60mm*; Footprint: Sensor_Current:Allegro_PSOF-7_4.8x6.4mm_P1.60mm; Supplier: http://www.allegromicro.com/~/media/Files/Datasheets/ACS780-Datasheet.ashx?la=en
footprint Allegro_PSOF-7_4.8x6.4mm_P1.60mm
pins: 1 VCC (power), 2 GND (power), 3 VOUT (out), 4 NC, 5 IP+, 6 IP-, 7 NC

## ACS780xLRTR-050U
designator *  value ACS780xLRTR-050U
ki_keywords: hall effect current monitor sensor isolated; ki_description: 50A Unidirectional Hall-Effect Current Sensor, +5.0V supply, 60mV/A, PSOF-7; ki_fp_filters: Allegro*PSOF*4.8x6.4mm*P1.60mm*; Footprint: Sensor_Current:Allegro_PSOF-7_4.8x6.4mm_P1.60mm; Supplier: http://www.allegromicro.com/~/media/Files/Datasheets/ACS780-Datasheet.ashx?la=en
footprint Allegro_PSOF-7_4.8x6.4mm_P1.60mm
pins: 1 VCC (power), 2 GND (power), 3 VOUT (out), 4 NC, 5 IP+, 6 IP-, 7 NC

## ACS780xLRTR-100B
designator *  value ACS780xLRTR-100B
ki_keywords: hall effect current monitor sensor isolated; ki_description: ±100A Bidirectional Hall-Effect Current Sensor, +5.0V supply, 20mV/A, PSOF-7; ki_fp_filters: Allegro*PSOF*4.8x6.4mm*P1.60mm*; Footprint: Sensor_Current:Allegro_PSOF-7_4.8x6.4mm_P1.60mm; Supplier: http://www.allegromicro.com/~/media/Files/Datasheets/ACS780-Datasheet.ashx?la=en
footprint Allegro_PSOF-7_4.8x6.4mm_P1.60mm
pins: 1 VCC (power), 2 GND (power), 3 VOUT (out), 4 NC, 5 IP+, 6 IP-, 7 NC

## ACS780xLRTR-100U
designator *  value ACS780xLRTR-100U
ki_keywords: hall effect current monitor sensor isolated; ki_description: 100A Unidirectional Hall-Effect Current Sensor, +5.0V supply, 40mV/A, PSOF-7; ki_fp_filters: Allegro*PSOF*4.8x6.4mm*P1.60mm*; Footprint: Sensor_Current:Allegro_PSOF-7_4.8x6.4mm_P1.60mm; Supplier: http://www.allegromicro.com/~/media/Files/Datasheets/ACS780-Datasheet.ashx?la=en
footprint Allegro_PSOF-7_4.8x6.4mm_P1.60mm
pins: 1 VCC (power), 2 GND (power), 3 VOUT (out), 4 NC, 5 IP+, 6 IP-, 7 NC

## ACS780xLRTR-150B
designator *  value ACS780xLRTR-150B
ki_keywords: hall effect current monitor sensor isolated; ki_description: ±150A Bidirectional Hall-Effect Current Sensor, +5.0V supply, 13.33mV/A, PSOF-7; ki_fp_filters: Allegro*PSOF*4.8x6.4mm*P1.60mm*; Footprint: Sensor_Current:Allegro_PSOF-7_4.8x6.4mm_P1.60mm; Supplier: http://www.allegromicro.com/~/media/Files/Datasheets/ACS780-Datasheet.ashx?la=en
footprint Allegro_PSOF-7_4.8x6.4mm_P1.60mm
pins: 1 VCC (power), 2 GND (power), 3 VOUT (out), 4 NC, 5 IP+, 6 IP-, 7 NC

## ACS780xLRTR-150U
designator *  value ACS780xLRTR-150U
ki_keywords: hall effect current monitor sensor isolated; ki_description: 150A Unidirectional Hall-Effect Current Sensor, +5.0V supply, 26.66mV/A, PSOF-7; ki_fp_filters: Allegro*PSOF*4.8x6.4mm*P1.60mm*; Footprint: Sensor_Current:Allegro_PSOF-7_4.8x6.4mm_P1.60mm; Supplier: http://www.allegromicro.com/~/media/Files/Datasheets/ACS780-Datasheet.ashx?la=en
footprint Allegro_PSOF-7_4.8x6.4mm_P1.60mm
pins: 1 VCC (power), 2 GND (power), 3 VOUT (out), 4 NC, 5 IP+, 6 IP-, 7 NC

## ACS781xLRTR-050B
designator *  value ACS781xLRTR-050B
ki_keywords: hall effect current monitor sensor isolated; ki_description: ±50A Bidirectional Hall-Effect Current Sensor, +3.3V supply, 26.4mV/A, PSOF-7; ki_fp_filters: Allegro*PSOF*4.8x6.4mm*P1.60mm*; Footprint: Sensor_Current:Allegro_PSOF-7_4.8x6.4mm_P1.60mm; Supplier: http://www.allegromicro.com/~/media/Files/Datasheets/ACS780-Datasheet.ashx?la=en
footprint Allegro_PSOF-7_4.8x6.4mm_P1.60mm
pins: 1 VCC (power), 2 GND (power), 3 VOUT (out), 4 NC, 5 IP+, 6 IP-, 7 NC

## ACS781xLRTR-050U
designator *  value ACS781xLRTR-050U
ki_keywords: hall effect current monitor sensor isolated; ki_description: 50A Unidirectional Hall-Effect Current Sensor, +3.3V supply, 39.6mV/A, PSOF-7; ki_fp_filters: Allegro*PSOF*4.8x6.4mm*P1.60mm*; Footprint: Sensor_Current:Allegro_PSOF-7_4.8x6.4mm_P1.60mm; Supplier: http://www.allegromicro.com/~/media/Files/Datasheets/ACS780-Datasheet.ashx?la=en
footprint Allegro_PSOF-7_4.8x6.4mm_P1.60mm
pins: 1 VCC (power), 2 GND (power), 3 VOUT (out), 4 NC, 5 IP+, 6 IP-, 7 NC

## ACS781xLRTR-100B
designator *  value ACS781xLRTR-100B
ki_keywords: hall effect current monitor sensor isolated; ki_description: ±100A Bidirectional Hall-Effect Current Sensor, +3.3V supply, 13.2mV/A, PSOF-7; ki_fp_filters: Allegro*PSOF*4.8x6.4mm*P1.60mm*; Footprint: Sensor_Current:Allegro_PSOF-7_4.8x6.4mm_P1.60mm; Supplier: http://www.allegromicro.com/~/media/Files/Datasheets/ACS780-Datasheet.ashx?la=en
footprint Allegro_PSOF-7_4.8x6.4mm_P1.60mm
pins: 1 VCC (power), 2 GND (power), 3 VOUT (out), 4 NC, 5 IP+, 6 IP-, 7 NC

## ACS781xLRTR-100U
designator *  value ACS781xLRTR-100U
ki_keywords: hall effect current monitor sensor isolated; ki_description: 100A Unidirectional Hall-Effect Current Sensor, +3.3V supply, 26.4mV/A, PSOF-7; ki_fp_filters: Allegro*PSOF*4.8x6.4mm*P1.60mm*; Footprint: Sensor_Current:Allegro_PSOF-7_4.8x6.4mm_P1.60mm; Supplier: http://www.allegromicro.com/~/media/Files/Datasheets/ACS781-Datasheet.ashx?la=en
footprint Allegro_PSOF-7_4.8x6.4mm_P1.60mm
pins: 1 VCC (power), 2 GND (power), 3 VOUT (out), 4 NC, 5 IP+, 6 IP-, 7 NC

## ACS781xLRTR-150B
designator *  value ACS781xLRTR-150B
ki_keywords: hall effect current monitor sensor isolated; ki_description: ±150A Bidirectional Hall-Effect Current Sensor, +3.3V supply, 8.8mV/A, PSOF-7; ki_fp_filters: Allegro*PSOF*4.8x6.4mm*P1.60mm*; Footprint: Sensor_Current:Allegro_PSOF-7_4.8x6.4mm_P1.60mm; Supplier: http://www.allegromicro.com/~/media/Files/Datasheets/ACS781-Datsaheet.ashx?la=en
footprint Allegro_PSOF-7_4.8x6.4mm_P1.60mm
pins: 1 VCC (power), 2 GND (power), 3 VOUT (out), 4 NC, 5 IP+, 6 IP-, 7 NC

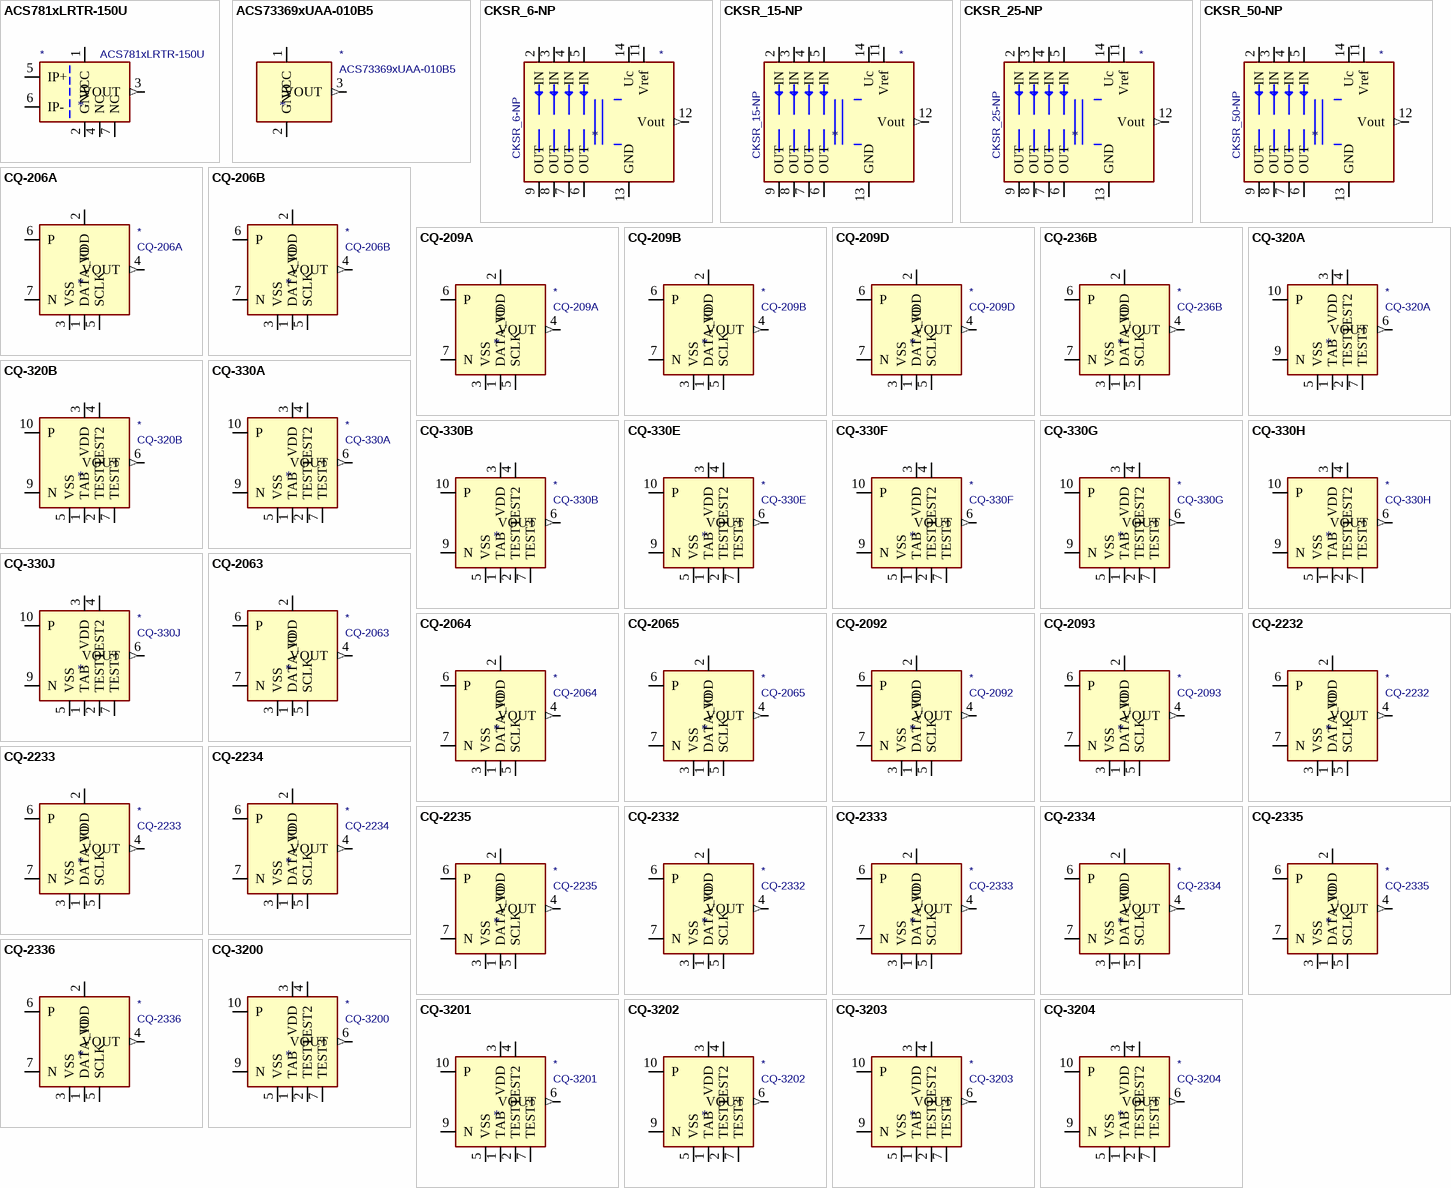
[diagram p4: symbols ACS781xLRTR-150U to CQ-3204]

## ACS781xLRTR-150U
designator *  value ACS781xLRTR-150U
ki_keywords: hall effect current monitor sensor isolated; ki_description: 150A Unidirectional Hall-Effect Current Sensor, +3.3V supply, 17.6mV/A, PSOF-7; ki_fp_filters: Allegro*PSOF*4.8x6.4mm*P1.60mm*; Footprint: Sensor_Current:Allegro_PSOF-7_4.8x6.4mm_P1.60mm; Supplier: http://www.allegromicro.com/~/media/Files/Datasheets/ACS781-Datsaheet.ashx?la=en
footprint Allegro_PSOF-7_4.8x6.4mm_P1.60mm
pins: 1 VCC (power), 2 GND (power), 3 VOUT (out), 4 NC, 5 IP+, 6 IP-, 7 NC

## ACS73369xUAA-010B5
designator *  value ACS73369xUAA-010B5
ki_keywords: hall effect current monitor sensor isolated; ki_description: Programmable Linear Hall Effect Sensor, +9 to +13.5mV/G, SIP-3; ki_fp_filters: Allegro*SIP*; Footprint: Sensor_Current:Allegro_SIP-3; Supplier: http://www.allegromicro.com/~/media/Files/Datasheets/ACS73369-Datasheet.ashx?la=en
footprint Allegro_SIP-3
pins: 1 VCC (power), 2 GND (power), 3 VOUT (out)

## CKSR_6-NP
designator *  value CKSR_6-NP
ki_keywords: current transducer; ki_description: Current Transducer, 6A, Unipolar, 0-5V Output; ki_fp_filters: LEM*CKSR*; Footprint: Sensor_Current:LEM_CKSR; Supplier: https://www.lem.com/sites/default/files/products_datasheets/cksr_series.pdf
footprint LEM_CKSR
pins: 2 IN, 3 IN, 4 IN, 5 IN, 6 OUT, 7 OUT, 8 OUT, 9 OUT, 11 Vref (io), 12 Vout (out), 13 GND (power), 14 Uc (power)

## CKSR_15-NP
designator *  value CKSR_15-NP
ki_keywords: current transducer; ki_description: Current Transducer, 15A, Unipolar, 0-5V Output; ki_fp_filters: LEM*CKSR*; Footprint: Sensor_Current:LEM_CKSR; Supplier: https://www.lem.com/sites/default/files/products_datasheets/cksr_series.pdf
footprint LEM_CKSR
pins: 2 IN, 3 IN, 4 IN, 5 IN, 6 OUT, 7 OUT, 8 OUT, 9 OUT, 11 Vref (io), 12 Vout (out), 13 GND (power), 14 Uc (power)

## CKSR_25-NP
designator *  value CKSR_25-NP
ki_keywords: current transducer; ki_description: Current Transducer, 25A, Unipolar, 0-5V Output; ki_fp_filters: LEM*CKSR*; Footprint: Sensor_Current:LEM_CKSR; Supplier: https://www.lem.com/sites/default/files/products_datasheets/cksr_series.pdf
footprint LEM_CKSR
pins: 2 IN, 3 IN, 4 IN, 5 IN, 6 OUT, 7 OUT, 8 OUT, 9 OUT, 11 Vref (io), 12 Vout (out), 13 GND (power), 14 Uc (power)

## CKSR_50-NP
designator *  value CKSR_50-NP
ki_keywords: current transducer; ki_description: Current Transducer, 50A, Unipolar, 0-5V Output; ki_fp_filters: LEM*CKSR*; Footprint: Sensor_Current:LEM_CKSR; Supplier: https://www.lem.com/sites/default/files/products_datasheets/cksr_series.pdf
footprint LEM_CKSR
pins: 2 IN, 3 IN, 4 IN, 5 IN, 6 OUT, 7 OUT, 8 OUT, 9 OUT, 11 Vref (io), 12 Vout (out), 13 GND (power), 14 Uc (power)

## CQ-206A
designator *  value CQ-206A
ki_keywords: hall effect current sensor; ki_description: High-Speed Small-Sized Current Sensor, Bidirectional, -46A to +46A, 45mV/A, CQ-7; ki_fp_filters: AKM*CQ*; Footprint: Sensor_Current:AKM_CQ_7; Supplier: http://www.akm.com/akm/en/file/datasheet/CQ-206A.pdf
footprint AKM_CQ_7
pins: 1 DATA_IO (power), 2 VDD (power), 3 VSS (power), 4 VOUT (out), 5 SCLK (power), 6 P, 7 N

## CQ-206B
designator *  value CQ-206B
ki_keywords: hall effect current sensor; ki_description: High-Speed Small-Sized Current Sensor, Unidirectional, 0A to +45A, 90mV/A, CQ-7; ki_fp_filters: AKM*CQ*; Footprint: Sensor_Current:AKM_CQ_7; Supplier: http://www.akm.com/akm/en/file/datasheet/CQ-206B.pdf
footprint AKM_CQ_7
pins: 1 DATA_IO (power), 2 VDD (power), 3 VSS (power), 4 VOUT (out), 5 SCLK (power), 6 P, 7 N

## CQ-209A
designator *  value CQ-209A
ki_keywords: hall effect current sensor; ki_description: High-Speed Small-Sized Current Sensor, Bidirectional, -31.8A to +31.8A, 66mV/A, CQ-7S; ki_fp_filters: AKM*CQ*S*; Footprint: Sensor_Current:AKM_CQ_7S; Supplier: http://www.akm.com/akm/en/file/datasheet/CQ-209A.pdf
footprint AKM_CQ_7S
pins: 1 DATA_IO (power), 2 VDD (power), 3 VSS (power), 4 VOUT (out), 5 SCLK (power), 6 P, 7 N

## CQ-209B
designator *  value CQ-209B
ki_keywords: hall effect current sensor; ki_description: High-Speed Small-Sized Current Sensor, Unidirectional, -35A to 0A, 115mV/A, CQ-7S; ki_fp_filters: AKM*CQ*S*; Footprint: Sensor_Current:AKM_CQ_7S; Supplier: http://www.akm.com/akm/en/file/datasheet/CQ-209B.pdf
footprint AKM_CQ_7S
pins: 1 DATA_IO (power), 2 VDD (power), 3 VSS (power), 4 VOUT (out), 5 SCLK (power), 6 P, 7 N

## CQ-209D
designator *  value CQ-209D
ki_keywords: hall effect current sensor; ki_description: High-Speed Small-Sized Current Sensor, Bidirectional, -41A to +41A, 50mV/A, CQ-7S; ki_fp_filters: AKM*CQ*S*; Footprint: Sensor_Current:AKM_CQ_7S; Supplier: http://www.akm.com/akm/en/file/datasheet/CQ-209D.pdf
footprint AKM_CQ_7S
pins: 1 DATA_IO (power), 2 VDD (power), 3 VSS (power), 4 VOUT (out), 5 SCLK (power), 6 P, 7 N

## CQ-236B
designator *  value CQ-236B
ki_keywords: hall effect current sensor; ki_description: High-Speed Small-Sized Current Sensor, Unidirectional, 0A to +25A, 160mV/A, CQ-7; ki_fp_filters: AKM*CQ*; Footprint: Sensor_Current:AKM_CQ_7; Supplier: http://www.akm.com/akm/en/file/datasheet/CQ-236B.pdf
footprint AKM_CQ_7
pins: 1 DATA_IO (power), 2 VDD (power), 3 VSS (power), 4 VOUT (out), 5 SCLK (power), 6 P, 7 N

## CQ-320A
designator *  value CQ-320A
ki_keywords: hall effect current sensor; ki_description: High-Speed Response Coreless Current Sensor, Bidirectional, -29.3A to +29.3A, 45mV/A, VSOP-24; ki_fp_filters: AKM*CQ*VSOP*5.6x7.9mm*P0.65mm*; Footprint: Sensor_Current:AKM_CQ_VSOP-24_5.6x7.9mm_P0.65mm; Supplier: http://www.akm.com/akm/en/file/datasheet/CQ-320A.pdf
footprint AKM_CQ_VSOP-24_5.6x7.9mm_P0.65mm
pins: 1 TAB (power), 2 TEST1 (power), 3 VDD (power), 4 TEST2 (power), 5 VSS (power), 6 VOUT (out), 7 TEST3 (power), 8 TAB hidden, 9 N, 10 P

## CQ-320B
designator *  value CQ-320B
ki_keywords: hall effect current sensor; ki_description: High-Speed Response Coreless Current Sensor, Unidirectional, -1.1A to +20.9A, 120mV/A, VSOP-24; ki_fp_filters: AKM*CQ*VSOP*5.6x7.9mm*P0.65mm*; Footprint: Sensor_Current:AKM_CQ_VSOP-24_5.6x7.9mm_P0.65mm; Supplier: http://www.akm.com/akm/en/file/datasheet/CQ-320B.pdf
footprint AKM_CQ_VSOP-24_5.6x7.9mm_P0.65mm
pins: 1 TAB (power), 2 TEST1 (power), 3 VDD (power), 4 TEST2 (power), 5 VSS (power), 6 VOUT (out), 7 TEST3 (power), 8 TAB hidden, 9 N, 10 P

## CQ-330A
designator *  value CQ-330A
ki_keywords: hall effect current sensor; ki_description: High-Speed Response Coreless Current Sensor, Bidirectional, -31.8A to +31.8A, 66mV/A, VSOP-24; ki_fp_filters: AKM*CQ*VSOP*5.6x7.9mm*P0.65mm*; Footprint: Sensor_Current:AKM_CQ_VSOP-24_5.6x7.9mm_P0.65mm; Supplier: http://www.akm.com/akm/en/file/datasheet/CQ-330A.pdf
footprint AKM_CQ_VSOP-24_5.6x7.9mm_P0.65mm
pins: 1 TAB (power), 2 TEST1 (power), 3 VDD (power), 4 TEST2 (power), 5 VSS (power), 6 VOUT (out), 7 TEST3 (power), 8 TAB hidden, 9 N, 10 P

## CQ-330B
designator *  value CQ-330B
ki_keywords: hall effect current sensor; ki_description: High-Speed Response Coreless Current Sensor, Unidirectional, 0A to +21.0A, 195mV/A, VSOP-24; ki_fp_filters: AKM*CQ*VSOP*5.6x7.9mm*P0.65mm*; Footprint: Sensor_Current:AKM_CQ_VSOP-24_5.6x7.9mm_P0.65mm; Supplier: http://www.akm.com/akm/en/file/datasheet/CQ-330B.pdf
footprint AKM_CQ_VSOP-24_5.6x7.9mm_P0.65mm
pins: 1 TAB (power), 2 TEST1 (power), 3 VDD (power), 4 TEST2 (power), 5 VSS (power), 6 VOUT (out), 7 TEST3 (power), 8 TAB hidden, 9 N, 10 P

## CQ-330E
designator *  value CQ-330E
ki_keywords: hall effect current sensor; ki_description: High-Speed Response Coreless Current Sensor, Unidirectional, 0A to +20.5A, 200mV/A, VSOP-24; ki_fp_filters: AKM*CQ*VSOP*5.6x7.9mm*P0.65mm*; Footprint: Sensor_Current:AKM_CQ_VSOP-24_5.6x7.9mm_P0.65mm; Supplier: http://www.akm.com/akm/en/file/datasheet/CQ-330E.pdf
footprint AKM_CQ_VSOP-24_5.6x7.9mm_P0.65mm
pins: 1 TAB (power), 2 TEST1 (power), 3 VDD (power), 4 TEST2 (power), 5 VSS (power), 6 VOUT (out), 7 TEST3 (power), 8 TAB hidden, 9 N, 10 P

## CQ-330F
designator *  value CQ-330F
ki_keywords: hall effect current sensor; ki_description: High-Speed Response Coreless Current Sensor, Unidirectional, -2.0A to +42.0A, 80mV/A, VSOP-24; ki_fp_filters: AKM*CQ*VSOP*5.6x7.9mm*P0.65mm*; Footprint: Sensor_Current:AKM_CQ_VSOP-24_5.6x7.9mm_P0.65mm; Supplier: http://www.akm.com/akm/en/file/datasheet/CQ-330F.pdf
footprint AKM_CQ_VSOP-24_5.6x7.9mm_P0.65mm
pins: 1 TAB (power), 2 TEST1 (power), 3 VDD (power), 4 TEST2 (power), 5 VSS (power), 6 VOUT (out), 7 TEST3 (power), 8 TAB hidden, 9 N, 10 P

## CQ-330G
designator *  value CQ-330G
ki_keywords: hall effect current sensor; ki_description: High-Speed Response Coreless Current Sensor, Bidirectional, -4.5A to +4.5A, 450mV/A, VSOP-24; ki_fp_filters: AKM*CQ*VSOP*5.6x7.9mm*P0.65mm*; Footprint: Sensor_Current:AKM_CQ_VSOP-24_5.6x7.9mm_P0.65mm; Supplier: http://www.akm.com/akm/en/file/datasheet/CQ-330G.pdf
footprint AKM_CQ_VSOP-24_5.6x7.9mm_P0.65mm
pins: 1 TAB (power), 2 TEST1 (power), 3 VDD (power), 4 TEST2 (power), 5 VSS (power), 6 VOUT (out), 7 TEST3 (power), 8 TAB hidden, 9 N, 10 P

## CQ-330H
designator *  value CQ-330H
ki_keywords: hall effect current sensor; ki_description: High-Speed Response Coreless Current Sensor, Bidirectional, -42.0A to +42.0A, 50mV/A, VSOP-24; ki_fp_filters: AKM*CQ*VSOP*5.6x7.9mm*P0.65mm*; Footprint: Sensor_Current:AKM_CQ_VSOP-24_5.6x7.9mm_P0.65mm; Supplier: http://www.akm.com/akm/en/file/datasheet/CQ-330H.pdf
footprint AKM_CQ_VSOP-24_5.6x7.9mm_P0.65mm
pins: 1 TAB (power), 2 TEST1 (power), 3 VDD (power), 4 TEST2 (power), 5 VSS (power), 6 VOUT (out), 7 TEST3 (power), 8 TAB hidden, 9 N, 10 P

## CQ-330J
designator *  value CQ-330J
ki_keywords: hall effect current sensor; ki_description: High-Speed Response Coreless Current Sensor, Unidirectional, -2.0A to +42.0A, 82.7mV/A, VSOP-24; ki_fp_filters: AKM*CQ*VSOP*5.6x7.9mm*P0.65mm*; Footprint: Sensor_Current:AKM_CQ_VSOP-24_5.6x7.9mm_P0.65mm; Supplier: http://www.akm.com/akm/en/file/datasheet/CQ-330J.pdf
footprint AKM_CQ_VSOP-24_5.6x7.9mm_P0.65mm
pins: 1 TAB (power), 2 TEST1 (power), 3 VDD (power), 4 TEST2 (power), 5 VSS (power), 6 VOUT (out), 7 TEST3 (power), 8 TAB hidden, 9 N, 10 P

## CQ-2063
designator *  value CQ-2063
ki_keywords: hall effect current sensor; ki_description: High-Speed Small-Sized Current Sensor, Bidirectional, -35A to +35A, 60mV/A, CQ-7; ki_fp_filters: AKM*CQ*; Footprint: Sensor_Current:AKM_CQ_7; Supplier: http://www.akm.com/akm/en/file/datasheet/CQ-2063.pdf
footprint AKM_CQ_7
pins: 1 DATA_IO (power), 2 VDD (power), 3 VSS (power), 4 VOUT (out), 5 SCLK (power), 6 P, 7 N

## CQ-2064
designator *  value CQ-2064
ki_keywords: hall effect current sensor; ki_description: High-Speed Small-Sized Current Sensor, Bidirectional, -54A to +54A, 40mV/A, CQ-7; ki_fp_filters: AKM*CQ*; Footprint: Sensor_Current:AKM_CQ_7; Supplier: http://www.akm.com/akm/en/file/datasheet/CQ-2064.pdf
footprint AKM_CQ_7
pins: 1 DATA_IO (power), 2 VDD (power), 3 VSS (power), 4 VOUT (out), 5 SCLK (power), 6 P, 7 N